# Altium integrated library Linear Technology Power Management Switching Regulator LT1074-LT8705.IntLib: 2252 symbols (part 114 of 148)
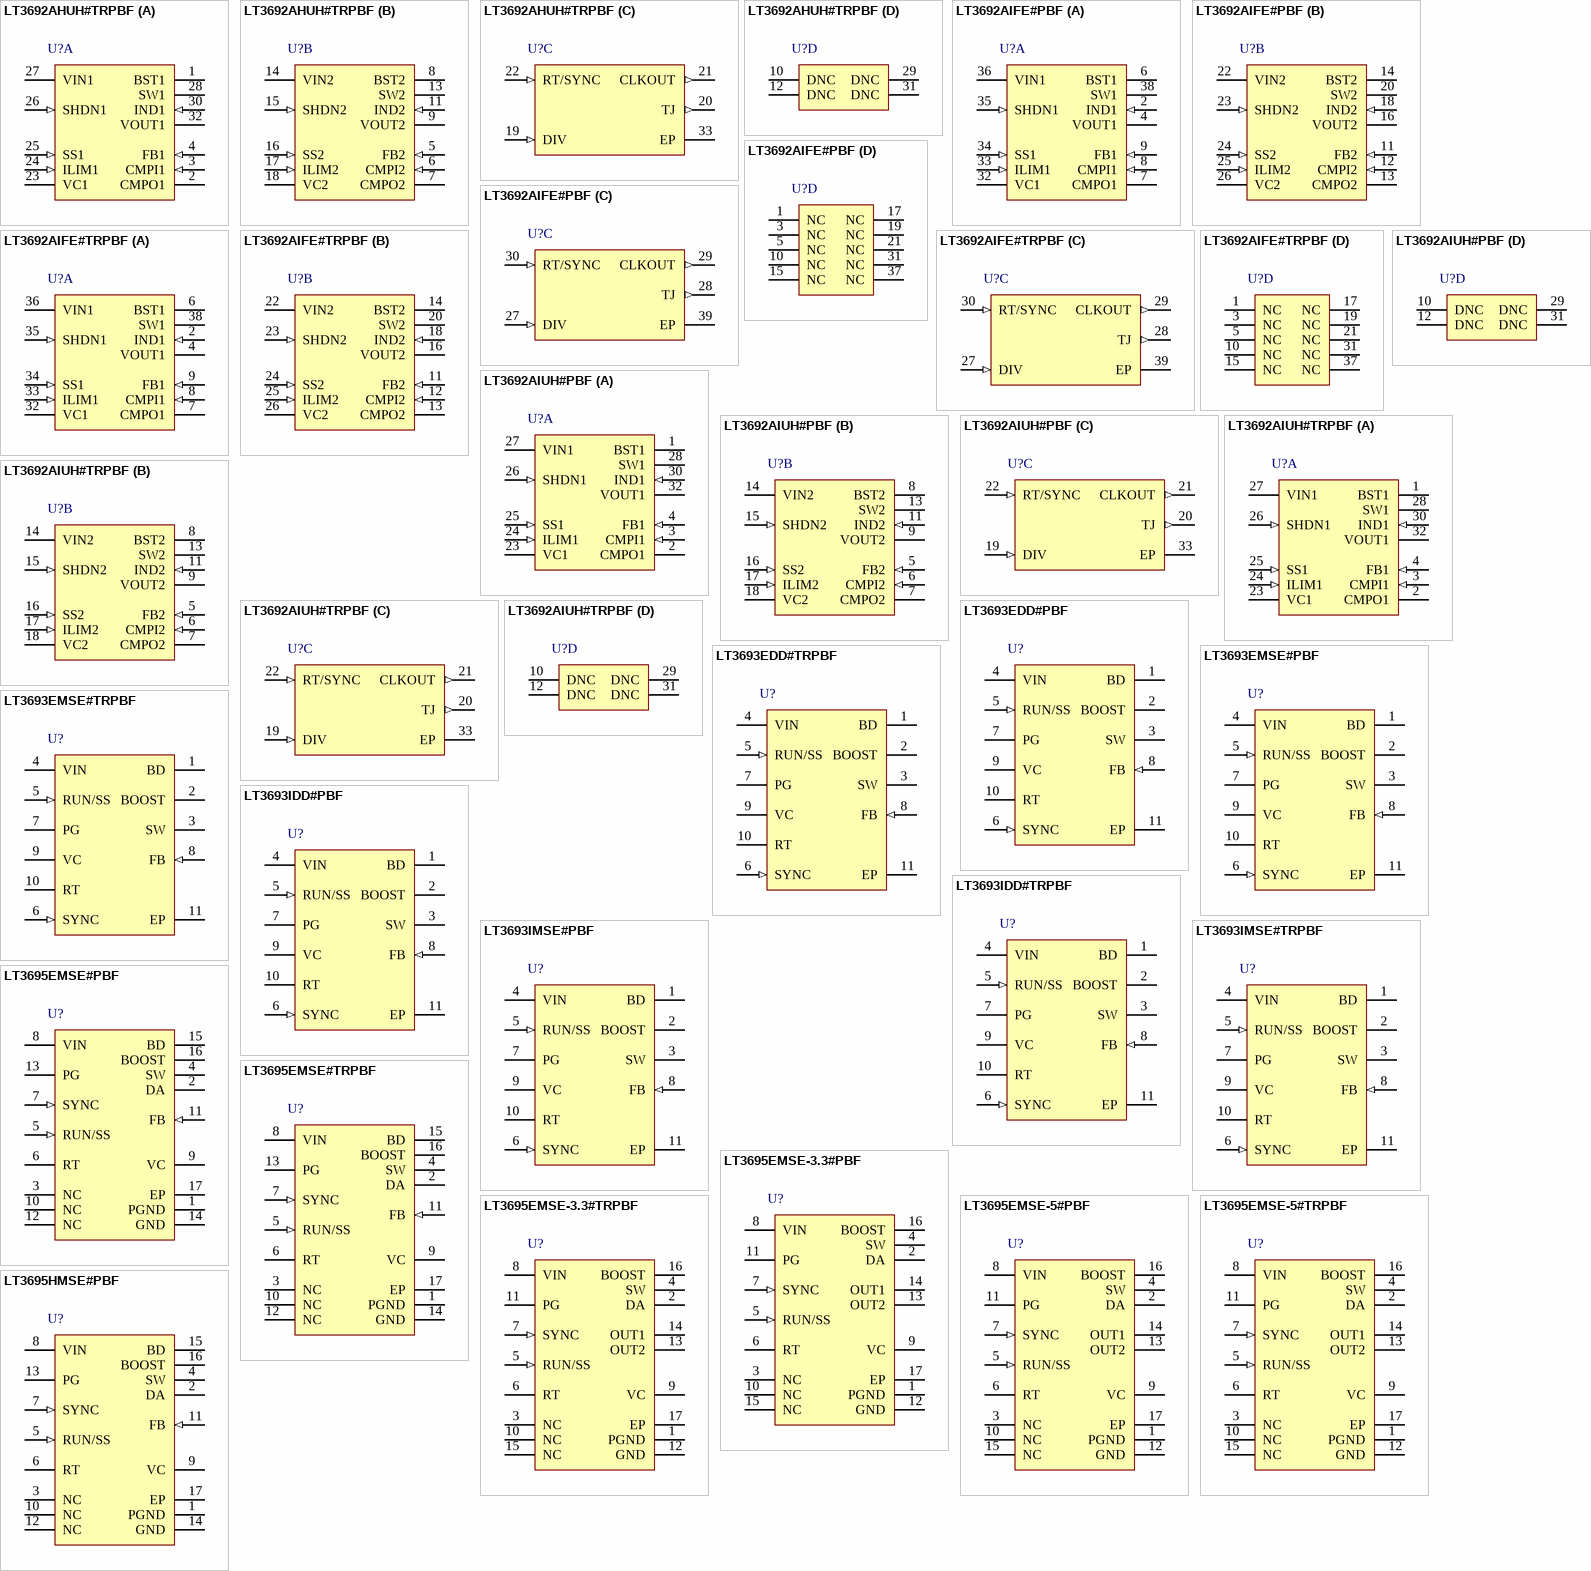
[diagram p184: symbols LT3692AHUH#TRPBF to LT3695HMSE#PBF]

## LT3693IDD#PBF
designator U?
3.5 A, 2.4 MHz Step-Down Switching Regulator, 10-pin SON-(DD-10), -40 to 125 degC, Pb-Free; Manufacturer: Linear Technology; PartNumber: LT3693IDD#PBF; Frequency Adjust Range: 200kHz - 2.4MHz; Number of Outputs: 1; PackageVersion: Rev. C, 06/2010; PackageReference: DD-10; PackageDescription: 10-Pin Plastic DFN, Body 3 x 3 mm, Pitch 0.5 mm; Supplier 1: Digi-Key; Supplier Part Number 1: LT3693IDD#PBF-ND; Supplier 2: Farnell; Supplier Part Number 2: 2294946; Supplier 3: Newark; Supplier Part Number 3: 57M8572; RoHS: TRUE; Mounting Technology: Surface Mount; Code_JEDEC: MO-229; ComponentLink1Description: Manufacturer URL; ComponentLink1URL: http://www.linear.com/; ComponentLink2Description: Datasheet; ComponentLink2URL: http://cds.linear.com/docs/en/datasheet/3693f.pdf; ComponentLink3Description: Package Specification; ComponentLink3URL: http://cds.linear.com/docs/en/packaging/DFN_10_05-08-1699.pdf
footprint LT-DD-10_V (SON, 10-Leads, Body 3x3mm, Pitch 0.5mm, Thermal Pad 2.38x1.65mm)
pins: 1 BD (power) "This pin connects to the anode of the boost Schottky diode. BD also supplies current to the internal regulator.", 2 BOOST "This pin is used to provide a drive voltage, higher than the input voltage, to the internal bipolar NPN power switch.", 3 SW (power) "The SW pin is the output of the internal power switch. Connect this pin to the inductor, catch diode and boost capacitor.", 4 VIN (power) "The VIN pin supplies current to internal regulator and to the internal power switch. This pin must be locally bypassed.", 5 RUN/SS (in) "If the shutdown feature is not used, tie this pin to the VIN pin. RUN/SS also provides a soft-start function; see the Applications Information section.", 6 SYNC (in) "This is the external clock synchronization input. Ground this pin for low ripple Burst Mode operation at low output loads. Tie to a clock source for synchronization. Clock edges should have rise and fall times faster than (See Datasheet)", 7 PG (oc) "The PG pin is the open collector output of an internal comparator. PG remains low until the FB pin is within 9% of the final regulation voltage. PG output is valid when VIN is above 3.6V and RUN/SS is high.", 8 FB (in) "Connect the feedback resistor divider tap to this pin.", 9 VC "The VC pin is the output of the internal error amplifier. The voltage on this pin controls the peak switch current. Tie an RC network from this pin to ground to compensate the control loop.", 10 RT "Oscillator Resistor Input. Connecting a resistor to ground from this pin sets the switching frequency.", 11 EP (power) "Ground. The Exposed Pad must be soldered to PCB."

## LT3693IDD#TRPBF
designator U?
3.5 A, 2.4 MHz Step-Down Switching Regulator, 10-pin SON-(DD-10), -40 to 125 degC, Pb-Free, Tape and Reel; Manufacturer: Linear Technology; PartNumber: LT3693IDD#TRPBF; Frequency Adjust Range: 200kHz - 2.4MHz; Number of Outputs: 1; PackageVersion: Rev. C, 06/2010; PackageReference: DD-10; PackageDescription: 10-Pin Plastic DFN, Body 3 x 3 mm, Pitch 0.5 mm; Supplier 1: Digi-Key; Supplier Part Number 1: LT3693IDD#TRPBF-ND; Packing: Tape and Reel; RoHS: TRUE; Mounting Technology: Surface Mount; Code_JEDEC: MO-229; ComponentLink1Description: Manufacturer URL; ComponentLink1URL: http://www.linear.com/; ComponentLink2Description: Datasheet; ComponentLink2URL: http://cds.linear.com/docs/en/datasheet/3693f.pdf; ComponentLink3Description: Package Specification; ComponentLink3URL: http://cds.linear.com/docs/en/packaging/DFN_10_05-08-1699.pdf
footprint LT-DD-10_V (SON, 10-Leads, Body 3x3mm, Pitch 0.5mm, Thermal Pad 2.38x1.65mm)
pins: 1 BD (power) "This pin connects to the anode of the boost Schottky diode. BD also supplies current to the internal regulator.", 2 BOOST "This pin is used to provide a drive voltage, higher than the input voltage, to the internal bipolar NPN power switch.", 3 SW (power) "The SW pin is the output of the internal power switch. Connect this pin to the inductor, catch diode and boost capacitor.", 4 VIN (power) "The VIN pin supplies current to internal regulator and to the internal power switch. This pin must be locally bypassed.", 5 RUN/SS (in) "If the shutdown feature is not used, tie this pin to the VIN pin. RUN/SS also provides a soft-start function; see the Applications Information section.", 6 SYNC (in) "This is the external clock synchronization input. Ground this pin for low ripple Burst Mode operation at low output loads. Tie to a clock source for synchronization. Clock edges should have rise and fall times faster than (See Datasheet)", 7 PG (oc) "The PG pin is the open collector output of an internal comparator. PG remains low until the FB pin is within 9% of the final regulation voltage. PG output is valid when VIN is above 3.6V and RUN/SS is high.", 8 FB (in) "Connect the feedback resistor divider tap to this pin.", 9 VC "The VC pin is the output of the internal error amplifier. The voltage on this pin controls the peak switch current. Tie an RC network from this pin to ground to compensate the control loop.", 10 RT "Oscillator Resistor Input. Connecting a resistor to ground from this pin sets the switching frequency.", 11 EP (power) "Ground. The Exposed Pad must be soldered to PCB."

## LT3693IMSE#PBF
designator U?
3.5 A, 2.4 MHz Step-Down Switching Regulator, 10-pin SOP (MSE-10-EDP), -40 to 125 degC, Pb-Free; Manufacturer: Linear Technology; PartNumber: LT3693IMSE#PBF; Frequency Adjust Range: 200kHz - 2.4MHz; Number of Outputs: 1; PackageVersion: Rev. C, 08/2009; PackageReference: MSE-10; PackageDescription: 10-Pin Plastic MSOP, Exposed Die Pad, Body 3 x 3 mm, Pitch 0.5 mm; Supplier 1: Digi-Key; Supplier Part Number 1: LT3693IMSE#PBF-ND; Supplier 2: Farnell; Supplier Part Number 2: 2293042; Supplier 3: Newark; Supplier Part Number 3: 57M8574; RoHS: TRUE; Mounting Technology: Surface Mount; ComponentLink1Description: Manufacturer URL; ComponentLink1URL: http://www.linear.com/; ComponentLink2Description: Datasheet; ComponentLink2URL: http://cds.linear.com/docs/en/datasheet/3693f.pdf; ComponentLink3Description: Package Specification; ComponentLink3URL: http://cds.linear.com/docs/en/datasheet/3481fc.pdf
footprint LT-MSE-10-EDP-2060x1830TP_N (SOP, 10-Leads, Body 3.1x3.1mm, Pitch 0.5mm, Thermal Pad 2.17x1.94mm, IPC Medium Density)
footprint LT-MSE-10-EDP-2060x1830TP_L (SOP, 10-Leads, Body 3.1x3.1mm, Pitch 0.5mm, Thermal Pad 2.17x1.94mm, IPC High Density)
footprint LT-MSE-10-EDP-2060x1830TP_M (SOP, 10-Leads, Body 3.1x3.1mm, Pitch 0.5mm, Thermal Pad 2.17x1.94mm, IPC Low Density)
pins: 1 BD (power) "This pin connects to the anode of the boost Schottky diode. BD also supplies current to the internal regulator.", 2 BOOST "This pin is used to provide a drive voltage, higher than the input voltage, to the internal bipolar NPN power switch.", 3 SW (power) "The SW pin is the output of the internal power switch. Connect this pin to the inductor, catch diode and boost capacitor.", 4 VIN (power) "The VIN pin supplies current to internal regulator and to the internal power switch. This pin must be locally bypassed.", 5 RUN/SS (in) "If the shutdown feature is not used, tie this pin to the VIN pin. RUN/SS also provides a soft-start function; see the Applications Information section.", 6 SYNC (in) "This is the external clock synchronization input. Ground this pin for low ripple Burst Mode operation at low output loads. Tie to a clock source for synchronization. Clock edges should have rise and fall times faster than (See Datasheet)", 7 PG (oc) "The PG pin is the open collector output of an internal comparator. PG remains low until the FB pin is within 9% of the final regulation voltage. PG output is valid when VIN is above 3.6V and RUN/SS is high.", 8 FB (in) "Connect the feedback resistor divider tap to this pin.", 9 VC "The VC pin is the output of the internal error amplifier. The voltage on this pin controls the peak switch current. Tie an RC network from this pin to ground to compensate the control loop.", 10 RT "Oscillator Resistor Input. Connecting a resistor to ground from this pin sets the switching frequency.", 11 EP (power) "Ground. The Exposed Pad must be soldered to PCB."

## LT3693IMSE#TRPBF
designator U?
3.5 A, 2.4 MHz Step-Down Switching Regulator, 10-pin SOP (MSE-10-EDP), -40 to 125 degC, Pb-Free, Tape and Reel; Manufacturer: Linear Technology; PartNumber: LT3693IMSE#TRPBF; Frequency Adjust Range: 200kHz - 2.4MHz; Number of Outputs: 1; PackageVersion: Rev. C, 08/2009; PackageReference: MSE-10; PackageDescription: 10-Pin Plastic MSOP, Exposed Die Pad, Body 3 x 3 mm, Pitch 0.5 mm; Supplier 1: Digi-Key; Supplier Part Number 1: LT3693IMSE#TRPBF-ND; Supplier 2: Newark; Supplier Part Number 2: 57M8575; Packing: Tape and Reel; RoHS: TRUE; Mounting Technology: Surface Mount; ComponentLink1Description: Manufacturer URL; ComponentLink1URL: http://www.linear.com/; ComponentLink2Description: Datasheet; ComponentLink2URL: http://cds.linear.com/docs/en/datasheet/3693f.pdf; ComponentLink3Description: Package Specification; ComponentLink3URL: http://cds.linear.com/docs/en/datasheet/3481fc.pdf
footprint LT-MSE-10-EDP-2060x1830TP_N (SOP, 10-Leads, Body 3.1x3.1mm, Pitch 0.5mm, Thermal Pad 2.17x1.94mm, IPC Medium Density)
footprint LT-MSE-10-EDP-2060x1830TP_L (SOP, 10-Leads, Body 3.1x3.1mm, Pitch 0.5mm, Thermal Pad 2.17x1.94mm, IPC High Density)
footprint LT-MSE-10-EDP-2060x1830TP_M (SOP, 10-Leads, Body 3.1x3.1mm, Pitch 0.5mm, Thermal Pad 2.17x1.94mm, IPC Low Density)
pins: 1 BD (power) "This pin connects to the anode of the boost Schottky diode. BD also supplies current to the internal regulator.", 2 BOOST "This pin is used to provide a drive voltage, higher than the input voltage, to the internal bipolar NPN power switch.", 3 SW (power) "The SW pin is the output of the internal power switch. Connect this pin to the inductor, catch diode and boost capacitor.", 4 VIN (power) "The VIN pin supplies current to internal regulator and to the internal power switch. This pin must be locally bypassed.", 5 RUN/SS (in) "If the shutdown feature is not used, tie this pin to the VIN pin. RUN/SS also provides a soft-start function; see the Applications Information section.", 6 SYNC (in) "This is the external clock synchronization input. Ground this pin for low ripple Burst Mode operation at low output loads. Tie to a clock source for synchronization. Clock edges should have rise and fall times faster than (See Datasheet)", 7 PG (oc) "The PG pin is the open collector output of an internal comparator. PG remains low until the FB pin is within 9% of the final regulation voltage. PG output is valid when VIN is above 3.6V and RUN/SS is high.", 8 FB (in) "Connect the feedback resistor divider tap to this pin.", 9 VC "The VC pin is the output of the internal error amplifier. The voltage on this pin controls the peak switch current. Tie an RC network from this pin to ground to compensate the control loop.", 10 RT "Oscillator Resistor Input. Connecting a resistor to ground from this pin sets the switching frequency.", 11 EP (power) "Ground. The Exposed Pad must be soldered to PCB."

## LT3695EMSE#PBF
designator U?
1 A Fault Tolerant Micropower Step-Down Regulator, 16-pin SOP (MSE-16-EDP), -40 to 125 degC, Pb-Free; Manufacturer: Linear Technology; PartNumber: LT3695EMSE#PBF; Frequency Adjust Range: 250kHz - 2.2MHz; Number of Outputs: 1; Over Voltage Protection(V): 60; DatasheetVersion: Rev. A; PackageVersion: Rev. F, 05/2013; PackageReference: MSE-16; PackageDescription: 16-Pin Plastic MSOP, Exposed Die Pad, Body 4.039 x 3 mm, Pitch 0.5 mm; Supplier 1: Digi-Key; Supplier Part Number 1: LT3695EMSE#PBF-ND; Supplier 2: Newark; Supplier Part Number 2: 13T8542; RoHS: TRUE; Mounting Technology: Surface Mount; ComponentLink1Description: Manufacturer URL; ComponentLink1URL: http://www.linear.com/; ComponentLink2Description: Datasheet; ComponentLink2URL: http://cds.linear.com/docs/en/datasheet/3695fa.pdf; ComponentLink3Description: Package Specification; ComponentLink3URL: http://cds.linear.com/docs/en/packaging/05081667_F_MSE16.pdf
footprint LT-MSE-16-EDP_N (SOP, 16-Leads, Body 4.1x3.1mm, Pitch 0.5mm, Thermal Pad 2.95x1.76mm, IPC Medium Density)
footprint LT-MSE-16-EDP_L (SOP, 16-Leads, Body 4.1x3.1mm, Pitch 0.5mm, Thermal Pad 2.95x1.76mm, IPC High Density)
footprint LT-MSE-16-EDP_M (SOP, 16-Leads, Body 4.1x3.1mm, Pitch 0.5mm, Thermal Pad 2.95x1.76mm, IPC Low Density)
pins: 1 PGND (power) "This is the power ground used by the catch diode (D1 in the Block Diagram) when its anode is connected to the DA pin. The exposed pad may be soldered to the PCB in order to lower the thermal resistance.", 2 DA "Connect the anode of the catch diode (D1) to this pin. Internal circuitry senses the current through the catch diode providing frequency foldback in extreme situations.", 3 NC "No Connects. These pins are not connected to internal circuitry and must be left floating to ensure fault tolerance.", 4 SW (power) "The SW pin is the output of the internal power switch. Connect this pin to the inductor, catch diode and boost capacitor.", 5 RUN/SS (in) "The RUN/SS pin is used to put the LT3695 regulators in shutdown mode. Tie to ground to shut down the LT3695 regulators. Tie to 2.5V or more for normal operation. RUN/SS also provides a soft-start function; see the (See Datasheet)", 6 RT "Oscillator Resistor Input. Connect a resistor from this pin to ground to set the switching frequency.", 7 SYNC (in) "This is the external clock synchronization input. Ground this pin with a 100k resistor for low ripple Burst Mode operation at low output loads. Tie to 0.8V or more for pulse-skipping mode operation. Tie to a clock source for (See Datasheet)", 8 VIN (power) "The VIN pin supplies current to the internal regulator and to the internal power switch. This pin must be locally bypassed.", 9 VC "The VC pin is the output of the internal error amplifier. The voltage on this pin controls the peak switch current. Tie an RC network from this pin to ground to compensate the control loop.", 10 NC "No Connects. These pins are not connected to internal circuitry and must be left floating to ensure fault tolerance.", 11 FB (in) "The LT3695 regulates the FB pin to 0.8V. Connect the feedback resistor divider tap to this pin.", 12 NC "No Connects. These pins are not connected to internal circuitry and must be left floating to ensure fault tolerance.", 13 PG (oc) "The PG pin is the open-collector output of an internal comparator. PG remains low until the FB pin (LT3695) or the OUT1,2 pins (LT3695-3.3, LT3695-5) are within 10% of the fi nal regulation voltage. PG output is valid when (See Datasheet)", 14 GND (power) "The GND pin is the ground of all the internal circuitry. Tie directly to the local GND plane.", 15 BD (power) "This pin connects to the anode of the boost Schottky diode and also supplies current to the LT3695’s internal regulator.", 16 BOOST "This pin is used to provide a drive voltage, higher than the input voltage, to the internal bipolar NPN power switch. Connect a capacitor (typically 0.22uF) between BOOST and SW.", 17 EP (power) "This is the power ground used by the catch diode (D1 in the Block Diagram) when its anode is connected to the DA pin. The exposed pad may be soldered to the PCB in order to lower the thermal resistance."

## LT3695EMSE#TRPBF
designator U?
1 A Fault Tolerant Micropower Step-Down Regulator, 16-pin SOP (MSE-16-EDP), -40 to 125 degC, Pb-Free, Tape and Reel; Manufacturer: Linear Technology; PartNumber: LT3695EMSE#TRPBF; Frequency Adjust Range: 250kHz - 2.2MHz; Number of Outputs: 1; Over Voltage Protection(V): 60; DatasheetVersion: Rev. A; PackageVersion: Rev. F, 05/2013; PackageReference: MSE-16; PackageDescription: 16-Pin Plastic MSOP, Exposed Die Pad, Body 4.039 x 3 mm, Pitch 0.5 mm; Supplier 1: Digi-Key; Supplier Part Number 1: LT3695EMSE#TRPBF-ND; Packing: Tape and Reel; RoHS: TRUE; Mounting Technology: Surface Mount; ComponentLink1Description: Manufacturer URL; ComponentLink1URL: http://www.linear.com/; ComponentLink2Description: Datasheet; ComponentLink2URL: http://cds.linear.com/docs/en/datasheet/3695fa.pdf; ComponentLink3Description: Package Specification; ComponentLink3URL: http://cds.linear.com/docs/en/packaging/05081667_F_MSE16.pdf
footprint LT-MSE-16-EDP_N (SOP, 16-Leads, Body 4.1x3.1mm, Pitch 0.5mm, Thermal Pad 2.95x1.76mm, IPC Medium Density)
footprint LT-MSE-16-EDP_L (SOP, 16-Leads, Body 4.1x3.1mm, Pitch 0.5mm, Thermal Pad 2.95x1.76mm, IPC High Density)
footprint LT-MSE-16-EDP_M (SOP, 16-Leads, Body 4.1x3.1mm, Pitch 0.5mm, Thermal Pad 2.95x1.76mm, IPC Low Density)
pins: 1 PGND (power) "This is the power ground used by the catch diode (D1 in the Block Diagram) when its anode is connected to the DA pin. The exposed pad may be soldered to the PCB in order to lower the thermal resistance.", 2 DA "Connect the anode of the catch diode (D1) to this pin. Internal circuitry senses the current through the catch diode providing frequency foldback in extreme situations.", 3 NC "No Connects. These pins are not connected to internal circuitry and must be left floating to ensure fault tolerance.", 4 SW (power) "The SW pin is the output of the internal power switch. Connect this pin to the inductor, catch diode and boost capacitor.", 5 RUN/SS (in) "The RUN/SS pin is used to put the LT3695 regulators in shutdown mode. Tie to ground to shut down the LT3695 regulators. Tie to 2.5V or more for normal operation. RUN/SS also provides a soft-start function; see the (See Datasheet)", 6 RT "Oscillator Resistor Input. Connect a resistor from this pin to ground to set the switching frequency.", 7 SYNC (in) "This is the external clock synchronization input. Ground this pin with a 100k resistor for low ripple Burst Mode operation at low output loads. Tie to 0.8V or more for pulse-skipping mode operation. Tie to a clock source for (See Datasheet)", 8 VIN (power) "The VIN pin supplies current to the internal regulator and to the internal power switch. This pin must be locally bypassed.", 9 VC "The VC pin is the output of the internal error amplifier. The voltage on this pin controls the peak switch current. Tie an RC network from this pin to ground to compensate the control loop.", 10 NC "No Connects. These pins are not connected to internal circuitry and must be left floating to ensure fault tolerance.", 11 FB (in) "The LT3695 regulates the FB pin to 0.8V. Connect the feedback resistor divider tap to this pin.", 12 NC "No Connects. These pins are not connected to internal circuitry and must be left floating to ensure fault tolerance.", 13 PG (oc) "The PG pin is the open-collector output of an internal comparator. PG remains low until the FB pin (LT3695) or the OUT1,2 pins (LT3695-3.3, LT3695-5) are within 10% of the fi nal regulation voltage. PG output is valid when (See Datasheet)", 14 GND (power) "The GND pin is the ground of all the internal circuitry. Tie directly to the local GND plane.", 15 BD (power) "This pin connects to the anode of the boost Schottky diode and also supplies current to the LT3695’s internal regulator.", 16 BOOST "This pin is used to provide a drive voltage, higher than the input voltage, to the internal bipolar NPN power switch. Connect a capacitor (typically 0.22uF) between BOOST and SW.", 17 EP (power) "This is the power ground used by the catch diode (D1 in the Block Diagram) when its anode is connected to the DA pin. The exposed pad may be soldered to the PCB in order to lower the thermal resistance."

## LT3695EMSE-3.3#PBF
designator U?
1 A Fault Tolerant Micropower Step-Down Regulator, 16-pin SOP (MSE-16-EDP), -40 to 125 degC, Pb-Free; Manufacturer: Linear Technology; PartNumber: LT3695EMSE-3.3#PBF; Frequency Adjust Range: 250kHz - 2.2MHz; Number of Outputs: 1; Over Voltage Protection(V): 60; DatasheetVersion: Rev. A; PackageVersion: Rev. F, 05/2013; PackageReference: MSE-16; PackageDescription: 16-Pin Plastic MSOP, Exposed Die Pad, Body 4.039 x 3 mm, Pitch 0.5 mm; Supplier 1: Digi-Key; Supplier Part Number 1: LT3695EMSE-3.3#PBF-ND; Supplier 2: Farnell; Supplier Part Number 2: 1839233; Supplier 3: Newark; Supplier Part Number 3: 51R1544; RoHS: TRUE; Mounting Technology: Surface Mount; ComponentLink1Description: Manufacturer URL; ComponentLink1URL: http://www.linear.com/; ComponentLink2Description: Datasheet; ComponentLink2URL: http://cds.linear.com/docs/en/datasheet/3695fa.pdf; ComponentLink3Description: Package Specification; ComponentLink3URL: http://cds.linear.com/docs/en/packaging/05081667_F_MSE16.pdf
footprint LT-MSE-16-EDP_N (SOP, 16-Leads, Body 4.1x3.1mm, Pitch 0.5mm, Thermal Pad 2.95x1.76mm, IPC Medium Density)
footprint LT-MSE-16-EDP_L (SOP, 16-Leads, Body 4.1x3.1mm, Pitch 0.5mm, Thermal Pad 2.95x1.76mm, IPC High Density)
footprint LT-MSE-16-EDP_M (SOP, 16-Leads, Body 4.1x3.1mm, Pitch 0.5mm, Thermal Pad 2.95x1.76mm, IPC Low Density)
pins: 1 PGND (power) "This is the power ground used by the catch diode (D1 in the Block Diagram) when its anode is connected to the DA pin. The exposed pad may be soldered to the PCB in order to lower the thermal resistance.", 2 DA "Connect the anode of the catch diode (D1) to this pin. Internal circuitry senses the current through the catch diode providing frequency foldback in extreme situations.", 3 NC "No Connects. These pins are not connected to internal circuitry and must be left floating to ensure fault tolerance.", 4 SW (power) "The SW pin is the output of the internal power switch. Connect this pin to the inductor, catch diode and boost capacitor.", 5 RUN/SS (in) "The RUN/SS pin is used to put the LT3695 regulators in shutdown mode. Tie to ground to shut down the LT3695 regulators. Tie to 2.5V or more for normal operation. RUN/SS also provides a soft-start function; see the (See Datasheet)", 6 RT "Oscillator Resistor Input. Connect a resistor from this pin to ground to set the switching frequency.", 7 SYNC (in) "This is the external clock synchronization input. Ground this pin with a 100k resistor for low ripple Burst Mode operation at low output loads. Tie to 0.8V or more for pulse-skipping mode operation. Tie to a clock source for (See Datasheet)", 8 VIN (power) "The VIN pin supplies current to the internal regulator and to the internal power switch. This pin must be locally bypassed.", 9 VC "The VC pin is the output of the internal error amplifier. The voltage on this pin controls the peak switch current. Tie an RC network from this pin to ground to compensate the control loop.", 10 NC "No Connects. These pins are not connected to internal circuitry and must be left floating to ensure fault tolerance.", 11 PG (oc) "The PG pin is the open-collector output of an internal comparator. PG remains low until the FB pin (LT3695) or the OUT1,2 pins (LT3695-3.3, LT3695-5) are within 10% of the fi nal regulation voltage. PG output is valid when (See Datasheet)", 12 GND (power) "The GND pin is the ground of all the internal circuitry. Tie directly to the local GND plane.", 13 OUT2 (power) "These pins connect to the anode of the boost Schottky diode and also supply current to the internal regulator. They also connect to the internal feedback resistors and must be connected to the output.", 14 OUT1 (power) "These pins connect to the anode of the boost Schottky diode and also supply current to the internal regulator. They also connect to the internal feedback resistors and must be connected to the output.", 15 NC "No Connects. These pins are not connected to internal circuitry and must be left floating to ensure fault tolerance.", 16 BOOST "This pin is used to provide a drive voltage, higher than the input voltage, to the internal bipolar NPN power switch. Connect a capacitor (typically 0.22uF) between BOOST and SW.", 17 EP (power) "This is the power ground used by the catch diode (D1 in the Block Diagram) when its anode is connected to the DA pin. The exposed pad may be soldered to the PCB in order to lower the thermal resistance."

## LT3695EMSE-3.3#TRPBF
designator U?
1 A Fault Tolerant Micropower Step-Down Regulator, 16-pin SOP (MSE-16-EDP), -40 to 125 degC, Pb-Free, Tape and Reel; Manufacturer: Linear Technology; PartNumber: LT3695EMSE-3.3#TRPBF; Frequency Adjust Range: 250kHz - 2.2MHz; Number of Outputs: 1; Over Voltage Protection(V): 60; DatasheetVersion: Rev. A; PackageVersion: Rev. F, 05/2013; PackageReference: MSE-16; PackageDescription: 16-Pin Plastic MSOP, Exposed Die Pad, Body 4.039 x 3 mm, Pitch 0.5 mm; Supplier 1: Digi-Key; Supplier Part Number 1: LT3695EMSE-3.3#TRPBF-ND; Packing: Tape and Reel; RoHS: TRUE; Mounting Technology: Surface Mount; ComponentLink1Description: Manufacturer URL; ComponentLink1URL: http://www.linear.com/; ComponentLink2Description: Datasheet; ComponentLink2URL: http://cds.linear.com/docs/en/datasheet/3695fa.pdf; ComponentLink3Description: Package Specification; ComponentLink3URL: http://cds.linear.com/docs/en/packaging/05081667_F_MSE16.pdf
footprint LT-MSE-16-EDP_N (SOP, 16-Leads, Body 4.1x3.1mm, Pitch 0.5mm, Thermal Pad 2.95x1.76mm, IPC Medium Density)
footprint LT-MSE-16-EDP_L (SOP, 16-Leads, Body 4.1x3.1mm, Pitch 0.5mm, Thermal Pad 2.95x1.76mm, IPC High Density)
footprint LT-MSE-16-EDP_M (SOP, 16-Leads, Body 4.1x3.1mm, Pitch 0.5mm, Thermal Pad 2.95x1.76mm, IPC Low Density)
pins: 1 PGND (power) "This is the power ground used by the catch diode (D1 in the Block Diagram) when its anode is connected to the DA pin. The exposed pad may be soldered to the PCB in order to lower the thermal resistance.", 2 DA "Connect the anode of the catch diode (D1) to this pin. Internal circuitry senses the current through the catch diode providing frequency foldback in extreme situations.", 3 NC "No Connects. These pins are not connected to internal circuitry and must be left floating to ensure fault tolerance.", 4 SW (power) "The SW pin is the output of the internal power switch. Connect this pin to the inductor, catch diode and boost capacitor.", 5 RUN/SS (in) "The RUN/SS pin is used to put the LT3695 regulators in shutdown mode. Tie to ground to shut down the LT3695 regulators. Tie to 2.5V or more for normal operation. RUN/SS also provides a soft-start function; see the (See Datasheet)", 6 RT "Oscillator Resistor Input. Connect a resistor from this pin to ground to set the switching frequency.", 7 SYNC (in) "This is the external clock synchronization input. Ground this pin with a 100k resistor for low ripple Burst Mode operation at low output loads. Tie to 0.8V or more for pulse-skipping mode operation. Tie to a clock source for (See Datasheet)", 8 VIN (power) "The VIN pin supplies current to the internal regulator and to the internal power switch. This pin must be locally bypassed.", 9 VC "The VC pin is the output of the internal error amplifier. The voltage on this pin controls the peak switch current. Tie an RC network from this pin to ground to compensate the control loop.", 10 NC "No Connects. These pins are not connected to internal circuitry and must be left floating to ensure fault tolerance.", 11 PG (oc) "The PG pin is the open-collector output of an internal comparator. PG remains low until the FB pin (LT3695) or the OUT1,2 pins (LT3695-3.3, LT3695-5) are within 10% of the fi nal regulation voltage. PG output is valid when (See Datasheet)", 12 GND (power) "The GND pin is the ground of all the internal circuitry. Tie directly to the local GND plane.", 13 OUT2 (power) "These pins connect to the anode of the boost Schottky diode and also supply current to the internal regulator. They also connect to the internal feedback resistors and must be connected to the output.", 14 OUT1 (power) "These pins connect to the anode of the boost Schottky diode and also supply current to the internal regulator. They also connect to the internal feedback resistors and must be connected to the output.", 15 NC "No Connects. These pins are not connected to internal circuitry and must be left floating to ensure fault tolerance.", 16 BOOST "This pin is used to provide a drive voltage, higher than the input voltage, to the internal bipolar NPN power switch. Connect a capacitor (typically 0.22uF) between BOOST and SW.", 17 EP (power) "This is the power ground used by the catch diode (D1 in the Block Diagram) when its anode is connected to the DA pin. The exposed pad may be soldered to the PCB in order to lower the thermal resistance."

## LT3695EMSE-5#PBF
designator U?
1 A Fault Tolerant Micropower Step-Down Regulator, 16-pin SOP (MSE-16-EDP), -40 to 125 degC, Pb-Free; Manufacturer: Linear Technology; PartNumber: LT3695EMSE-5#PBF; Frequency Adjust Range: 250kHz - 2.2MHz; Number of Outputs: 1; Over Voltage Protection(V): 60; DatasheetVersion: Rev. A; PackageVersion: Rev. F, 05/2013; PackageReference: MSE-16; PackageDescription: 16-Pin Plastic MSOP, Exposed Die Pad, Body 4.039 x 3 mm, Pitch 0.5 mm; Supplier 1: Digi-Key; Supplier Part Number 1: LT3695EMSE-5#PBF-ND; Supplier 2: Farnell; Supplier Part Number 2: 1839234; Supplier 3: Newark; Supplier Part Number 3: 51R1545; RoHS: TRUE; Mounting Technology: Surface Mount; ComponentLink1Description: Manufacturer URL; ComponentLink1URL: http://www.linear.com/; ComponentLink2Description: Datasheet; ComponentLink2URL: http://cds.linear.com/docs/en/datasheet/3695fa.pdf; ComponentLink3Description: Package Specification; ComponentLink3URL: http://cds.linear.com/docs/en/packaging/05081667_F_MSE16.pdf
footprint LT-MSE-16-EDP_N (SOP, 16-Leads, Body 4.1x3.1mm, Pitch 0.5mm, Thermal Pad 2.95x1.76mm, IPC Medium Density)
footprint LT-MSE-16-EDP_L (SOP, 16-Leads, Body 4.1x3.1mm, Pitch 0.5mm, Thermal Pad 2.95x1.76mm, IPC High Density)
footprint LT-MSE-16-EDP_M (SOP, 16-Leads, Body 4.1x3.1mm, Pitch 0.5mm, Thermal Pad 2.95x1.76mm, IPC Low Density)
pins: 1 PGND (power) "This is the power ground used by the catch diode (D1 in the Block Diagram) when its anode is connected to the DA pin. The exposed pad may be soldered to the PCB in order to lower the thermal resistance.", 2 DA "Connect the anode of the catch diode (D1) to this pin. Internal circuitry senses the current through the catch diode providing frequency foldback in extreme situations.", 3 NC "No Connects. These pins are not connected to internal circuitry and must be left floating to ensure fault tolerance.", 4 SW (power) "The SW pin is the output of the internal power switch. Connect this pin to the inductor, catch diode and boost capacitor.", 5 RUN/SS (in) "The RUN/SS pin is used to put the LT3695 regulators in shutdown mode. Tie to ground to shut down the LT3695 regulators. Tie to 2.5V or more for normal operation. RUN/SS also provides a soft-start function; see the (See Datasheet)", 6 RT "Oscillator Resistor Input. Connect a resistor from this pin to ground to set the switching frequency.", 7 SYNC (in) "This is the external clock synchronization input. Ground this pin with a 100k resistor for low ripple Burst Mode operation at low output loads. Tie to 0.8V or more for pulse-skipping mode operation. Tie to a clock source for (See Datasheet)", 8 VIN (power) "The VIN pin supplies current to the internal regulator and to the internal power switch. This pin must be locally bypassed.", 9 VC "The VC pin is the output of the internal error amplifier. The voltage on this pin controls the peak switch current. Tie an RC network from this pin to ground to compensate the control loop.", 10 NC "No Connects. These pins are not connected to internal circuitry and must be left floating to ensure fault tolerance.", 11 PG (oc) "The PG pin is the open-collector output of an internal comparator. PG remains low until the FB pin (LT3695) or the OUT1,2 pins (LT3695-3.3, LT3695-5) are within 10% of the fi nal regulation voltage. PG output is valid when (See Datasheet)", 12 GND (power) "The GND pin is the ground of all the internal circuitry. Tie directly to the local GND plane.", 13 OUT2 (power) "These pins connect to the anode of the boost Schottky diode and also supply current to the internal regulator. They also connect to the internal feedback resistors and must be connected to the output.", 14 OUT1 (power) "These pins connect to the anode of the boost Schottky diode and also supply current to the internal regulator. They also connect to the internal feedback resistors and must be connected to the output.", 15 NC "No Connects. These pins are not connected to internal circuitry and must be left floating to ensure fault tolerance.", 16 BOOST "This pin is used to provide a drive voltage, higher than the input voltage, to the internal bipolar NPN power switch. Connect a capacitor (typically 0.22uF) between BOOST and SW.", 17 EP (power) "This is the power ground used by the catch diode (D1 in the Block Diagram) when its anode is connected to the DA pin. The exposed pad may be soldered to the PCB in order to lower the thermal resistance."

## LT3695EMSE-5#TRPBF
designator U?
1 A Fault Tolerant Micropower Step-Down Regulator, 16-pin SOP (MSE-16-EDP), -40 to 125 degC, Pb-Free, Tape and Reel; Manufacturer: Linear Technology; PartNumber: LT3695EMSE-5#TRPBF; Frequency Adjust Range: 250kHz - 2.2MHz; Number of Outputs: 1; Over Voltage Protection(V): 60; DatasheetVersion: Rev. A; PackageVersion: Rev. F, 05/2013; PackageReference: MSE-16; PackageDescription: 16-Pin Plastic MSOP, Exposed Die Pad, Body 4.039 x 3 mm, Pitch 0.5 mm; Supplier 1: Digi-Key; Supplier Part Number 1: LT3695EMSE-5#TRPBF-ND; Packing: Tape and Reel; RoHS: TRUE; Mounting Technology: Surface Mount; ComponentLink1Description: Manufacturer URL; ComponentLink1URL: http://www.linear.com/; ComponentLink2Description: Datasheet; ComponentLink2URL: http://cds.linear.com/docs/en/datasheet/3695fa.pdf; ComponentLink3Description: Package Specification; ComponentLink3URL: http://cds.linear.com/docs/en/packaging/05081667_F_MSE16.pdf
footprint LT-MSE-16-EDP_N (SOP, 16-Leads, Body 4.1x3.1mm, Pitch 0.5mm, Thermal Pad 2.95x1.76mm, IPC Medium Density)
footprint LT-MSE-16-EDP_L (SOP, 16-Leads, Body 4.1x3.1mm, Pitch 0.5mm, Thermal Pad 2.95x1.76mm, IPC High Density)
footprint LT-MSE-16-EDP_M (SOP, 16-Leads, Body 4.1x3.1mm, Pitch 0.5mm, Thermal Pad 2.95x1.76mm, IPC Low Density)
pins: 1 PGND (power) "This is the power ground used by the catch diode (D1 in the Block Diagram) when its anode is connected to the DA pin. The exposed pad may be soldered to the PCB in order to lower the thermal resistance.", 2 DA "Connect the anode of the catch diode (D1) to this pin. Internal circuitry senses the current through the catch diode providing frequency foldback in extreme situations.", 3 NC "No Connects. These pins are not connected to internal circuitry and must be left floating to ensure fault tolerance.", 4 SW (power) "The SW pin is the output of the internal power switch. Connect this pin to the inductor, catch diode and boost capacitor.", 5 RUN/SS (in) "The RUN/SS pin is used to put the LT3695 regulators in shutdown mode. Tie to ground to shut down the LT3695 regulators. Tie to 2.5V or more for normal operation. RUN/SS also provides a soft-start function; see the (See Datasheet)", 6 RT "Oscillator Resistor Input. Connect a resistor from this pin to ground to set the switching frequency.", 7 SYNC (in) "This is the external clock synchronization input. Ground this pin with a 100k resistor for low ripple Burst Mode operation at low output loads. Tie to 0.8V or more for pulse-skipping mode operation. Tie to a clock source for (See Datasheet)", 8 VIN (power) "The VIN pin supplies current to the internal regulator and to the internal power switch. This pin must be locally bypassed.", 9 VC "The VC pin is the output of the internal error amplifier. The voltage on this pin controls the peak switch current. Tie an RC network from this pin to ground to compensate the control loop.", 10 NC "No Connects. These pins are not connected to internal circuitry and must be left floating to ensure fault tolerance.", 11 PG (oc) "The PG pin is the open-collector output of an internal comparator. PG remains low until the FB pin (LT3695) or the OUT1,2 pins (LT3695-3.3, LT3695-5) are within 10% of the fi nal regulation voltage. PG output is valid when (See Datasheet)", 12 GND (power) "The GND pin is the ground of all the internal circuitry. Tie directly to the local GND plane.", 13 OUT2 (power) "These pins connect to the anode of the boost Schottky diode and also supply current to the internal regulator. They also connect to the internal feedback resistors and must be connected to the output.", 14 OUT1 (power) "These pins connect to the anode of the boost Schottky diode and also supply current to the internal regulator. They also connect to the internal feedback resistors and must be connected to the output.", 15 NC "No Connects. These pins are not connected to internal circuitry and must be left floating to ensure fault tolerance.", 16 BOOST "This pin is used to provide a drive voltage, higher than the input voltage, to the internal bipolar NPN power switch. Connect a capacitor (typically 0.22uF) between BOOST and SW.", 17 EP (power) "This is the power ground used by the catch diode (D1 in the Block Diagram) when its anode is connected to the DA pin. The exposed pad may be soldered to the PCB in order to lower the thermal resistance."

## LT3695HMSE#PBF
designator U?
1 A Fault Tolerant Micropower Step-Down Regulator, 16-pin SOP (MSE-16-EDP), -40 to 150 degC, Pb-Free; Manufacturer: Linear Technology; PartNumber: LT3695HMSE#PBF; Frequency Adjust Range: 250kHz - 2.2MHz; Number of Outputs: 1; Over Voltage Protection(V): 60; DatasheetVersion: Rev. A; PackageVersion: Rev. F, 05/2013; PackageReference: MSE-16; PackageDescription: 16-Pin Plastic MSOP, Exposed Die Pad, Body 4.039 x 3 mm, Pitch 0.5 mm; Supplier 1: Digi-Key; Supplier Part Number 1: LT3695HMSE#PBF-ND; RoHS: TRUE; Mounting Technology: Surface Mount; ComponentLink1Description: Manufacturer URL; ComponentLink1URL: http://www.linear.com/; ComponentLink2Description: Datasheet; ComponentLink2URL: http://cds.linear.com/docs/en/datasheet/3695fa.pdf; ComponentLink3Description: Package Specification; ComponentLink3URL: http://cds.linear.com/docs/en/packaging/05081667_F_MSE16.pdf
footprint LT-MSE-16-EDP_N (SOP, 16-Leads, Body 4.1x3.1mm, Pitch 0.5mm, Thermal Pad 2.95x1.76mm, IPC Medium Density)
footprint LT-MSE-16-EDP_L (SOP, 16-Leads, Body 4.1x3.1mm, Pitch 0.5mm, Thermal Pad 2.95x1.76mm, IPC High Density)
footprint LT-MSE-16-EDP_M (SOP, 16-Leads, Body 4.1x3.1mm, Pitch 0.5mm, Thermal Pad 2.95x1.76mm, IPC Low Density)
pins: 1 PGND (power) "This is the power ground used by the catch diode (D1 in the Block Diagram) when its anode is connected to the DA pin. The exposed pad may be soldered to the PCB in order to lower the thermal resistance.", 2 DA "Connect the anode of the catch diode (D1) to this pin. Internal circuitry senses the current through the catch diode providing frequency foldback in extreme situations.", 3 NC "No Connects. These pins are not connected to internal circuitry and must be left floating to ensure fault tolerance.", 4 SW (power) "The SW pin is the output of the internal power switch. Connect this pin to the inductor, catch diode and boost capacitor.", 5 RUN/SS (in) "The RUN/SS pin is used to put the LT3695 regulators in shutdown mode. Tie to ground to shut down the LT3695 regulators. Tie to 2.5V or more for normal operation. RUN/SS also provides a soft-start function; see the (See Datasheet)", 6 RT "Oscillator Resistor Input. Connect a resistor from this pin to ground to set the switching frequency.", 7 SYNC (in) "This is the external clock synchronization input. Ground this pin with a 100k resistor for low ripple Burst Mode operation at low output loads. Tie to 0.8V or more for pulse-skipping mode operation. Tie to a clock source for (See Datasheet)", 8 VIN (power) "The VIN pin supplies current to the internal regulator and to the internal power switch. This pin must be locally bypassed.", 9 VC "The VC pin is the output of the internal error amplifier. The voltage on this pin controls the peak switch current. Tie an RC network from this pin to ground to compensate the control loop.", 10 NC "No Connects. These pins are not connected to internal circuitry and must be left floating to ensure fault tolerance.", 11 FB (in) "The LT3695 regulates the FB pin to 0.8V. Connect the feedback resistor divider tap to this pin.", 12 NC "No Connects. These pins are not connected to internal circuitry and must be left floating to ensure fault tolerance.", 13 PG (oc) "The PG pin is the open-collector output of an internal comparator. PG remains low until the FB pin (LT3695) or the OUT1,2 pins (LT3695-3.3, LT3695-5) are within 10% of the fi nal regulation voltage. PG output is valid when (See Datasheet)", 14 GND (power) "The GND pin is the ground of all the internal circuitry. Tie directly to the local GND plane.", 15 BD (power) "This pin connects to the anode of the boost Schottky diode and also supplies current to the LT3695’s internal regulator.", 16 BOOST "This pin is used to provide a drive voltage, higher than the input voltage, to the internal bipolar NPN power switch. Connect a capacitor (typically 0.22uF) between BOOST and SW.", 17 EP (power) "This is the power ground used by the catch diode (D1 in the Block Diagram) when its anode is connected to the DA pin. The exposed pad may be soldered to the PCB in order to lower the thermal resistance."

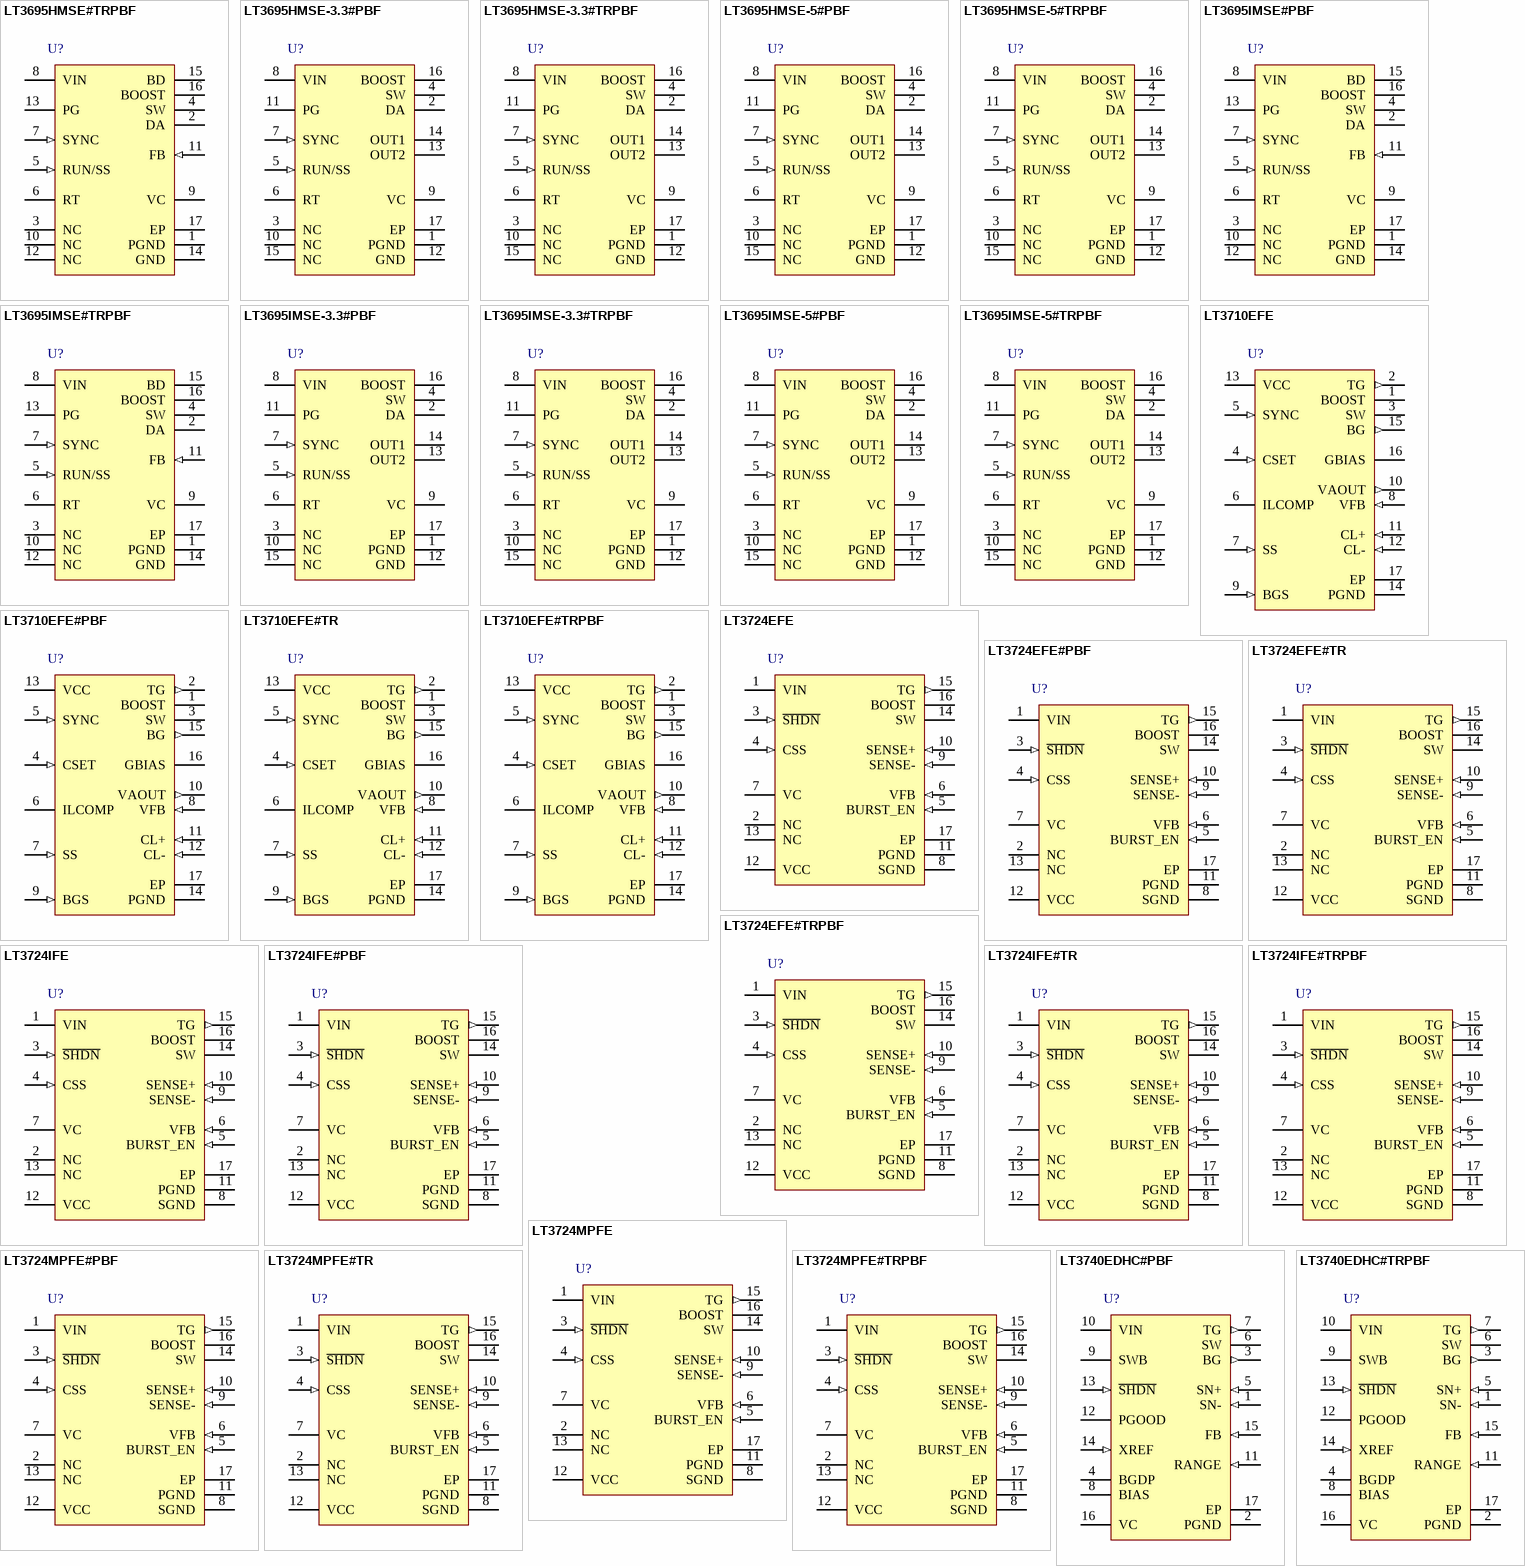
[diagram p56: symbols LT3695HMSE#TRPBF to LT3740EDHC#TRPBF]

## LT3695HMSE#TRPBF
designator U?
1 A Fault Tolerant Micropower Step-Down Regulator, 16-pin SOP (MSE-16-EDP), -40 to 150 degC, Pb-Free, Tape and Reel; Manufacturer: Linear Technology; PartNumber: LT3695HMSE#TRPBF; Frequency Adjust Range: 250kHz - 2.2MHz; Number of Outputs: 1; Over Voltage Protection(V): 60; DatasheetVersion: Rev. A; PackageVersion: Rev. F, 05/2013; PackageReference: MSE-16; PackageDescription: 16-Pin Plastic MSOP, Exposed Die Pad, Body 4.039 x 3 mm, Pitch 0.5 mm; Supplier 1: Digi-Key; Supplier Part Number 1: LT3695HMSE#TRPBF-ND; Packing: Tape and Reel; RoHS: TRUE; Mounting Technology: Surface Mount; ComponentLink1Description: Manufacturer URL; ComponentLink1URL: http://www.linear.com/; ComponentLink2Description: Datasheet; ComponentLink2URL: http://cds.linear.com/docs/en/datasheet/3695fa.pdf; ComponentLink3Description: Package Specification; ComponentLink3URL: http://cds.linear.com/docs/en/packaging/05081667_F_MSE16.pdf
footprint LT-MSE-16-EDP_N (SOP, 16-Leads, Body 4.1x3.1mm, Pitch 0.5mm, Thermal Pad 2.95x1.76mm, IPC Medium Density)
footprint LT-MSE-16-EDP_L (SOP, 16-Leads, Body 4.1x3.1mm, Pitch 0.5mm, Thermal Pad 2.95x1.76mm, IPC High Density)
footprint LT-MSE-16-EDP_M (SOP, 16-Leads, Body 4.1x3.1mm, Pitch 0.5mm, Thermal Pad 2.95x1.76mm, IPC Low Density)
pins: 1 PGND (power) "This is the power ground used by the catch diode (D1 in the Block Diagram) when its anode is connected to the DA pin. The exposed pad may be soldered to the PCB in order to lower the thermal resistance.", 2 DA "Connect the anode of the catch diode (D1) to this pin. Internal circuitry senses the current through the catch diode providing frequency foldback in extreme situations.", 3 NC "No Connects. These pins are not connected to internal circuitry and must be left floating to ensure fault tolerance.", 4 SW (power) "The SW pin is the output of the internal power switch. Connect this pin to the inductor, catch diode and boost capacitor.", 5 RUN/SS (in) "The RUN/SS pin is used to put the LT3695 regulators in shutdown mode. Tie to ground to shut down the LT3695 regulators. Tie to 2.5V or more for normal operation. RUN/SS also provides a soft-start function; see the (See Datasheet)", 6 RT "Oscillator Resistor Input. Connect a resistor from this pin to ground to set the switching frequency.", 7 SYNC (in) "This is the external clock synchronization input. Ground this pin with a 100k resistor for low ripple Burst Mode operation at low output loads. Tie to 0.8V or more for pulse-skipping mode operation. Tie to a clock source for (See Datasheet)", 8 VIN (power) "The VIN pin supplies current to the internal regulator and to the internal power switch. This pin must be locally bypassed.", 9 VC "The VC pin is the output of the internal error amplifier. The voltage on this pin controls the peak switch current. Tie an RC network from this pin to ground to compensate the control loop.", 10 NC "No Connects. These pins are not connected to internal circuitry and must be left floating to ensure fault tolerance.", 11 FB (in) "The LT3695 regulates the FB pin to 0.8V. Connect the feedback resistor divider tap to this pin.", 12 NC "No Connects. These pins are not connected to internal circuitry and must be left floating to ensure fault tolerance.", 13 PG (oc) "The PG pin is the open-collector output of an internal comparator. PG remains low until the FB pin (LT3695) or the OUT1,2 pins (LT3695-3.3, LT3695-5) are within 10% of the fi nal regulation voltage. PG output is valid when (See Datasheet)", 14 GND (power) "The GND pin is the ground of all the internal circuitry. Tie directly to the local GND plane.", 15 BD (power) "This pin connects to the anode of the boost Schottky diode and also supplies current to the LT3695’s internal regulator.", 16 BOOST "This pin is used to provide a drive voltage, higher than the input voltage, to the internal bipolar NPN power switch. Connect a capacitor (typically 0.22uF) between BOOST and SW.", 17 EP (power) "This is the power ground used by the catch diode (D1 in the Block Diagram) when its anode is connected to the DA pin. The exposed pad may be soldered to the PCB in order to lower the thermal resistance."